# Altium schematic symbol library XT60-M.SchLib: 1 symbol
Pins are listed as number, name and electrical type; pins without a type are passive.

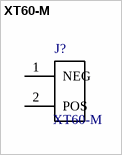
[diagram p0: symbol XT60-M]

## XT60-M
designator J?
MF: AMASS; Availability: Unavailable; Package: Package Analog Devices; SnapEDA_Link: https://www.snapeda.com/parts/XT60-M/AMASS/view-part/?ref=snap; MP: XT60-M; Price: None; Value: *
footprint *AMASS_XT60-M
pins: 1 NEG, 2 POS